# Altium schematic symbol library SN74CBT3253CPWR.SchLib: 1 symbol
Pins are listed as number, name and electrical type; pins without a type are passive.

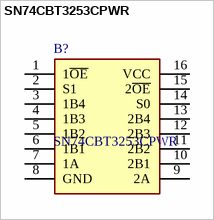
[diagram p0: symbol SN74CBT3253CPWR]

## SN74CBT3253CPWR
designator B?
Dual 1-Of-4 FET Multiplexer/Demultiplexer with -2 V Undershoot-Protection; Manufacturer_Name: Texas Instruments; Geometry.Height: 1.2mm; Manufacturer_Part_Number: SN74CBT3253CPWR; Mouser Part Number: 595-SN74CBT3253CPWR; Mouser Price/Stock: https://www.mouser.co.uk/ProductDetail/Texas-Instruments/SN74CBT3253CPWR?qs=mE33ZKBHyE6I49B8KhfjUg%3D%3D; Arrow Part Number: SN74CBT3253CPWR; Arrow Price/Stock: https://www.arrow.com/en/products/sn74cbt3253cpwr/texas-instruments; Datasheet Link: http://www.ti.com/lit/gpn/sn74cbt3253c
footprint SOP65P640X120-16N
pins: 1 1~{OE}, 2 S1, 3 1B4, 4 1B3, 5 1B2, 6 1B1, 7 1A, 8 GND, 9 2A, 10 2B1, 11 2B2, 12 2B3, 13 2B4, 14 S0, 15 2~{OE}, 16 VCC